# Altium integrated library RC4136N.IntLib: 1 symbol
Pins are listed as number, name and electrical type; pins without a type are passive.

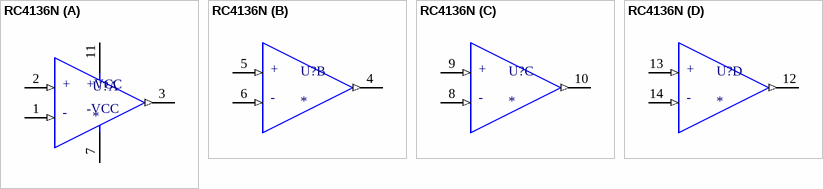
[diagram p0: symbol RC4136N]

## RC4136N
designator U?
Quad general purpose 30V operational amplifier 14-PDIP 0 to 70; MF: Texas Instruments; MP: RC4136N; Package: PDIP-14 Texas Instruments; Check_prices: https://www.snapeda.com/parts/RC4136N/Texas%20Instruments/view-part/568586/?ref=eda; Purchase-URL: https://pricing.snapeda.com/search/part/RC4136N/?ref=eda; Price: None; Value: *; Availability: Good; SnapEDA_Link: https://www.snapeda.com/parts/RC4136N/Texas%20Instruments/view-part/568586/?ref=snap
footprint DIP794W45P254L1969H508Q14
part A pins: 1 IN- (in), 2 IN+ (in), 3 OUT (out), 7 VCC- (power), 11 VCC+ (power)
part B pins: 4 OUT (out), 5 IN+ (in), 6 IN- (in)
part C pins: 8 IN- (in), 9 IN+ (in), 10 OUT (out)
part D pins: 12 OUT (out), 13 IN+ (in), 14 IN- (in)
part A text: +; +VCC; -; -VCC
part B text: +; -
part C text: +; -
part D text: +; -